# Altium footprint library SnapEDApcb.PcbLib: 1 footprints
Each footprint in its own frame and in the unit in brackets; x right, y up, seen from the top. Pads: shape width x height; smd on the part's side, far side on the other; paste and mask are expansions set on the pad; w line width, h text height; cw(c..) or ccw(c..) is an arc to the next point about the centre after c.
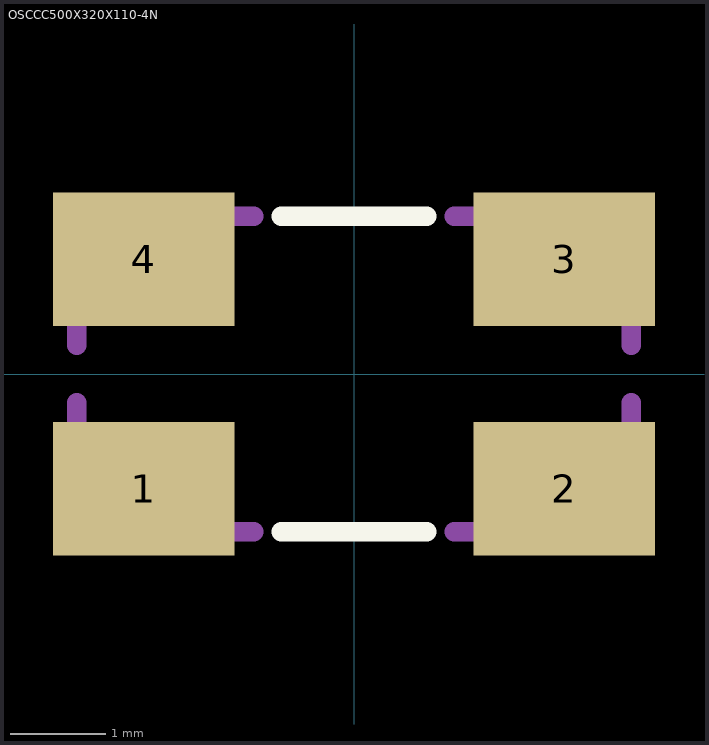
[diagram p0: the footprint, top view; thin cyan lines are the x and y axes]

## OSCCC500X320X110-4N [mm]
pads (4):
  rect 1.9x1.4 smd: 1(-2.2,-1.2) 2(2.2,-1.2) 3(2.2,1.2) 4(-2.2,1.2)
Top Overlay:
  lines w0.203: -0.762,-1.651 0.762,-1.651 ; -0.762,1.651 0.762,1.651
Mechanical 13:
  lines w0.203: -2.902,-1.225 cw(c-2.902,-1.652) -2.475,-1.652 ; -2.902,1.225 ccw(c-2.902,1.652) -2.475,1.652 ; -2.9,-1.225 -2.9,-0.3 ; -2.9,0.3 -2.9,1.225 ; -2.475,-1.65 -1.05,-1.65 ; -2.475,1.65 -1.05,1.65 ; 1.05,-1.65 2.475,-1.65 ; 1.05,1.65 2.475,1.65 ; 2.475,-1.652 cw(c2.902,-1.652) 2.902,-1.225 ; 2.475,1.652 ccw(c2.902,1.652) 2.902,1.225 ; 2.9,-1.225 2.9,-0.3 ; 2.9,0.3 2.9,1.225